# Altium footprint library Mezeq_Electromechanical_Switches.PcbLib: 3 footprints
Each footprint in its own frame and in the unit in brackets; x right, y up, seen from the top. Pads: shape width x height; smd on the part's side, far side on the other; paste and mask are expansions set on the pad; w line width, h text height; cw(c..) or ccw(c..) is an arc to the next point about the centre after c.
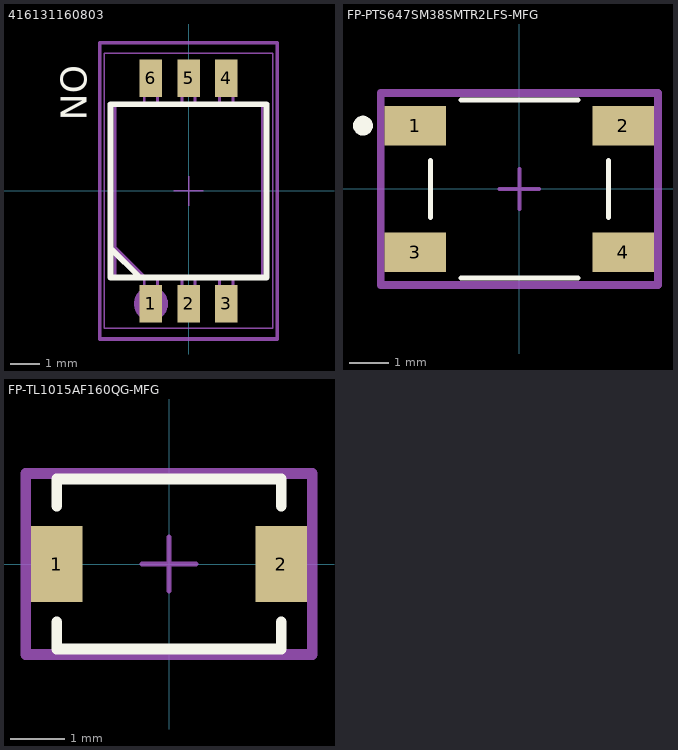
[diagram p0: the footprints below, top view; thin cyan lines are the x and y axes]

## 416131160803 [mm] "SMD Dip Switch, Small Compact, Raised Actuator, 3pin"
height 2.65
pads (6):
  rect 0.76x1.27 smd: 1(-1.27,-3.81) 2(0,-3.81) 3(1.27,-3.81) 4(1.27,3.81) 5(0,3.81) 6(-1.27,3.81)
Top Overlay:
  lines w0.2: -2.64,-1.925 -1.64,-2.925 ; -2.64,-2.925 2.64,-2.925 2.64,2.925 -2.64,2.925 -2.64,-2.925
  text "ON" at -4.318,4.24 h0.89
Top Assembly:
  circle w0.254: c-1.27,-3.81 r0.448
  lines w0.127: -3,-5 -3,5 3,5 3,-5 -3,-5
  text ".Designator" at -9.997,-0.666 h2
Top Component Outline:
  lines w0.1: -2.49,-1.9 -1.49,-2.9 ; -1.495,-2.9 -1.495,-4.32 -1.045,-4.32 -1.045,-2.9 ; -1.495,2.9 -1.495,4.32 -1.045,4.32 -1.045,2.9 ; -0.225,-2.9 -0.225,-4.32 0.225,-4.32 0.225,-2.9 ; -0.225,2.9 -0.225,4.32 0.225,4.32 0.225,2.9 ; 1.045,-2.9 1.045,-4.32 1.495,-4.32 1.495,-2.9 ; 1.045,2.9 1.045,4.32 1.495,4.32 1.495,2.9 ; -2.49,-2.9 -2.49,2.9 2.49,2.9 2.49,-2.9 -2.49,-2.9
  text "ON" at -2.07,1.6 h0.89
Top Courtyard:
  lines w0.05: -0.5,0 0.5,0 ; 0,-0.5 0,0.5 ; -2.84,-4.645 2.84,-4.645 2.84,4.645 -2.84,4.645 -2.84,-4.645
3D body "416131160803.stp": height 2.65, standoff 0, extent -2.49,-4.22 2.49,4.22

## FP-PTS647SM38SMTR2LFS-MFG [mm]
pads (4):
  rect 1.55x1 smd: 1(-2.625,1.6) 2(2.625,1.6) 3(-2.625,-1.6) 4(2.625,-1.6)
Top Overlay:
  circle w0.25: c-3.95,1.6 r0.125
  lines w0.127: -2.25,-0.725 -2.25,0.725 ; -1.475,-2.25 1.475,-2.25 ; -1.475,2.25 1.475,2.25 ; 2.25,-0.725 2.25,0.725
Top Assembly:
  circle w0.25: c-2.9,1.8 r0.125
  lines w0.127: -3.5,-2.425 3.5,-2.425 3.5,2.425 -3.5,2.425 -3.5,-2.425
  text ".Designator" at -9.997,-0.666 h2
Top Courtyard:
  lines w0.2: -3.5,-2.425 3.5,-2.425 3.5,2.425 -3.5,2.425 -3.5,-2.425
Top Component Center:
  lines w0.1: -0.5,0 0.5,0 ; 0,-0.5 0,0.5
3D body "Switch_C&K_Components_PTS647SM38SMTR2LFS_eec.STEP": height 3.8, standoff 0, extent -3.25,-2.25 3.25,2.25

## FP-TL1015AF160QG-MFG [mm]
pads (2):
  rect 0.95x1.4 smd paste+0 mask+0: 1(-2.075,0) 2(2.075,0)
Top Overlay:
  lines w0.2: -2.075,-1.075 -2.075,-1.575 2.075,-1.575 2.075,-1.075 ; -2.075,1.075 -2.075,1.575 2.075,1.575 2.075,1.075
Top Assembly:
  lines w0.127: -2.65,-1.675 2.65,-1.675 2.65,1.675 -2.65,1.675 -2.65,-1.675
  text ".Designator" at -4.998,-0.333 h1
Top Courtyard:
  lines w0.2: -2.65,-1.675 2.65,-1.675 2.65,1.675 -2.65,1.675 -2.65,-1.675
Top Component Center:
  lines w0.1: -0.5,0 0.5,0 ; 0,-0.5 0,0.5
3D body "Switch_E-Switch_TL1015AF160QG_eec.STEP": height 0.25, standoff 0, extent -2.65,-1.675 2.65,1.675